# EAGLE library part SENS_MICRO-SD (library SNWCT_EAGLE_LBR)
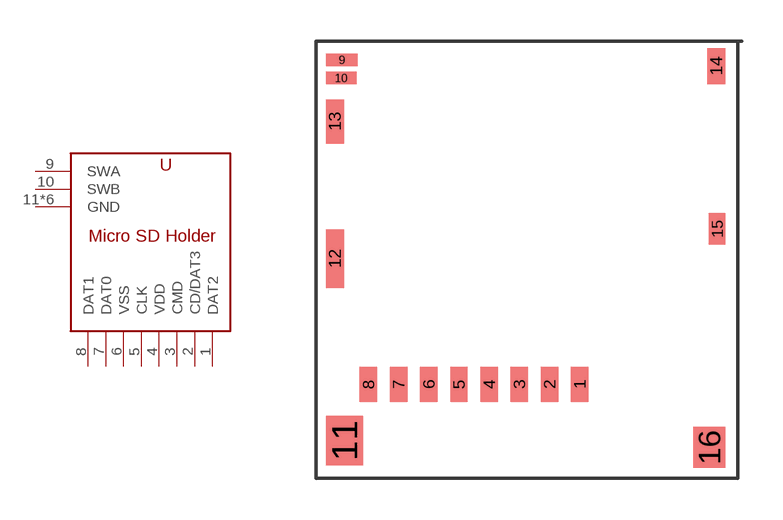
[diagram p8: symbol with the pads of MICRO-SD; footprint MICRO-SD]

Designator prefix -

## SENS_MICRO-SD  [MICRO-SD]
1  DAT2
2  CD/DAT3
3  CMD
4  VDD
5  CLK
6  VSS
7  DAT0
8  DAT1
9  SWA
10  SWB
11  GND
12  GND
13  GND
14  GND
15  GND
16  GND

## Footprint MICRO-SD (pad centres in mm)
smd 0.635 x 1.27: 1 3.85,-0.7; 2 2.75,-0.7; 3 1.65,-0.7; 4 0.55,-0.7; 5 -0.55,-0.7; 6 -1.65,-0.7; 7 -2.75,-0.7; 8 -3.85,-0.7
smd 1.15 x 0.45: 9 -4.815,11.125
smd 1.11 x 0.45: 10 -4.845,10.465
smd 1.35 x 1.8: 11 -4.715,-2.75
smd 0.65 x 2.14: 12 -5.065,3.88
smd 0.65 x 1.6: 13 -5.065,8.882
smd 0.65 x 1.3: 14 8.835,10.9
smd 0.6 x 1.15: 15 8.86,4.975
smd 1.16 x 1.5: 16 8.58,-3